# Altium integrated library TI Power Management Linear Regulator Single Channel LDO (0-350mA).IntLib: 1648 symbols (part 24 of 66)
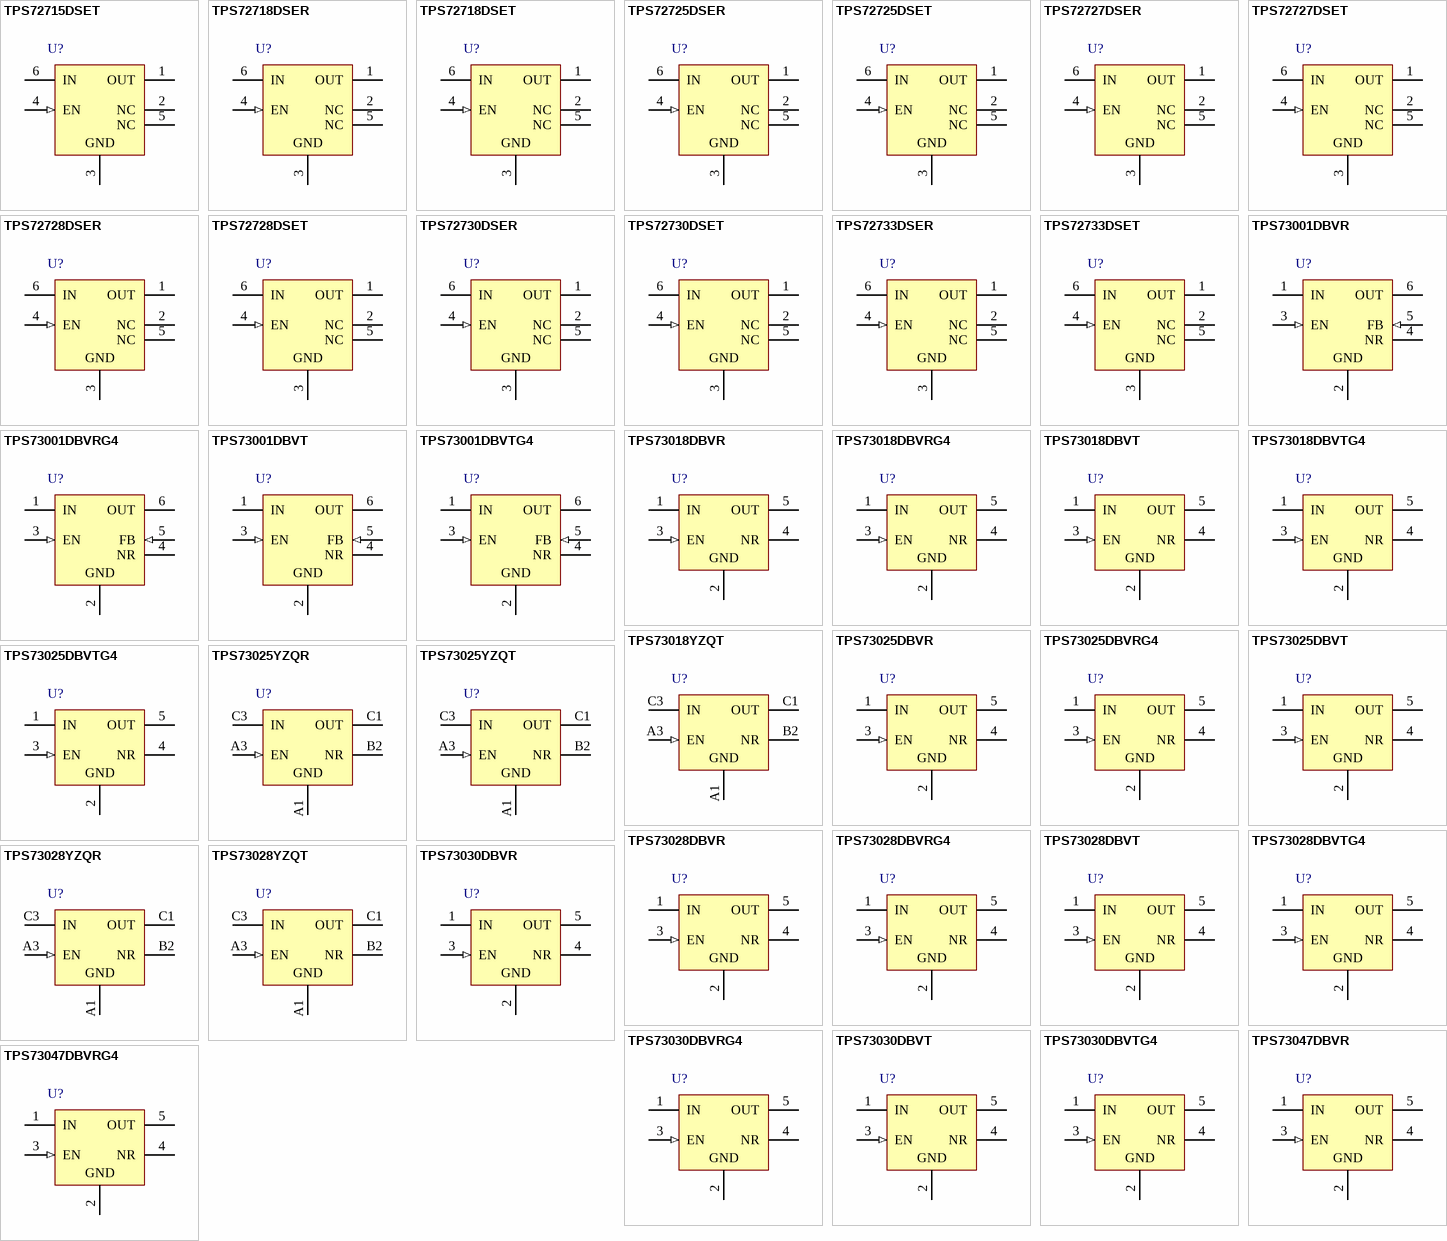
[diagram p65: symbols TPS72715DSET to TPS73047DBVRG4]

## TPS72718DSER
designator U?
Single Output Fast Transient Response LDO, 250 mA, Fixed 1.8 V Output, 2 to 5.5 V Input, with Ultra-Low IQ, 6-pin WSON (DSE), -40 to 125 degC, Green (RoHS & no Sb/Br); Manufacturer: Texas Instruments; PartNumber: TPS72718DSER; Accuracy(%): 2; Fixed Output Options(V): 1.8; Iout(Max)(A): 0.25; Iq(Typ)(mA): 0.008; Rating: Catalog; SubFamily: Single Channel LDO; Vdo(Typ)(mV): 130; Vin(Max)(V): 5.5; DatasheetVersion: SBVS128C; PackageVersion: 4207810/A; PackageReference: DSE6; PackageDescription: 6-Pin Plastic Small Outline, Body 1.5 x 1.5 mm, Pitch 0.5 mm; Supplier 1: Digi-Key; Supplier Part Number 1: TPS72718DSER-ND; Supplier 2: Newark; Supplier Part Number 2: 50R8161; Supplier 3: Mouser; Supplier Part Number 3: 595-TPS72718DSER; Eco-Plan: Green (RoHS & no Sb/Br); Vin(Min)(V): 2; Vout Adj(Max)(V): 1.8; Vout Adj(Min)(V): 1.8; Mounting Technology: Surface Mount; ComponentLink1Description: Manufacturer URL; ComponentLink1URL: http://www.ti.com/; ComponentLink2Description: Datasheet; ComponentLink2URL: http://www.ti.com/general/docs/lit/getliterature.tsp?genericPartNumber=TPS72718&fileType=pdf; ComponentLink3Description: Package Specification; ComponentLink3URL: http://www.ti.com/litv/pdf/mpds287
footprint TI-DSE6_V (SON, 6-Leads, Body 1.5x1.5mm, Pitch 0.5mm)
pins: 1 OUT (power) "Regulated output voltage pin. A small 1uF ceramic capacitor is needed from this pin to ground to assure stability.", 2 NC "No connection. This pin can be tied to to ground to improve thermal dissipation.", 3 GND (power) "Ground pin", 4 EN (in) "Enable pin. Driving EN over 0.9V turns on the regulator. Driving EN below 0.4V puts the regulator into shutdown mode, thus reducing the operating current to 120nA, nominal.", 5 NC "No connection. This pin can be tied to to ground to improve thermal dissipation.", 6 IN (power) "Input pin. A small capacitor is needed from this pin to ground to assure stability."

## TPS72718DSET
designator U?
Single Output Fast Transient Response LDO, 250 mA, Fixed 1.8 V Output, 2 to 5.5 V Input, with Ultra-Low IQ, 6-pin WSON (DSE), -40 to 125 degC, Green (RoHS & no Sb/Br); Manufacturer: Texas Instruments; PartNumber: TPS72718DSET; Accuracy(%): 2; Fixed Output Options(V): 1.8; Iout(Max)(A): 0.25; Iq(Typ)(mA): 0.008; Rating: Catalog; SubFamily: Single Channel LDO; Vdo(Typ)(mV): 130; Vin(Max)(V): 5.5; DatasheetVersion: SBVS128C; PackageVersion: 4207810/A; PackageReference: DSE6; PackageDescription: 6-Pin Plastic Small Outline, Body 1.5 x 1.5 mm, Pitch 0.5 mm; Supplier 1: Digi-Key; Supplier Part Number 1: 296-25192-2-ND; Supplier 2: Digi-Key; Supplier Part Number 2: 296-25192-1-ND; Supplier 3: Digi-Key; Supplier Part Number 3: 296-25192-6-ND; Supplier 4: Newark; Supplier Part Number 4: 34R6357; Supplier 5: Mouser; Supplier Part Number 5: 595-TPS72718DSET; Eco-Plan: Green (RoHS & no Sb/Br); Vin(Min)(V): 2; Vout Adj(Max)(V): 1.8; Vout Adj(Min)(V): 1.8; Mounting Technology: Surface Mount; ComponentLink1Description: Manufacturer URL; ComponentLink1URL: http://www.ti.com/; ComponentLink2Description: Datasheet; ComponentLink2URL: http://www.ti.com/general/docs/lit/getliterature.tsp?genericPartNumber=TPS72718&fileType=pdf; ComponentLink3Description: Package Specification; ComponentLink3URL: http://www.ti.com/litv/pdf/mpds287
footprint TI-DSE6_V (SON, 6-Leads, Body 1.5x1.5mm, Pitch 0.5mm)
pins: 1 OUT (power) "Regulated output voltage pin. A small 1uF ceramic capacitor is needed from this pin to ground to assure stability.", 2 NC "No connection. This pin can be tied to to ground to improve thermal dissipation.", 3 GND (power) "Ground pin", 4 EN (in) "Enable pin. Driving EN over 0.9V turns on the regulator. Driving EN below 0.4V puts the regulator into shutdown mode, thus reducing the operating current to 120nA, nominal.", 5 NC "No connection. This pin can be tied to to ground to improve thermal dissipation.", 6 IN (power) "Input pin. A small capacitor is needed from this pin to ground to assure stability."

## TPS72725DSER
designator U?
Single Output Fast Transient Response LDO, 250 mA, Fixed 2.5 V Output, 2 to 5.5 V Input, with Ultra-Low IQ, 6-pin WSON (DSE), -40 to 125 degC, Green (RoHS & no Sb/Br); Manufacturer: Texas Instruments; PartNumber: TPS72725DSER; Accuracy(%): 2; Fixed Output Options(V): 2.5; Iout(Max)(A): 0.25; Iq(Typ)(mA): 0.008; Rating: Catalog; SubFamily: Single Channel LDO; Vdo(Typ)(mV): 130; Vin(Max)(V): 5.5; DatasheetVersion: SBVS128C; PackageVersion: 4207810/A; PackageReference: DSE6; PackageDescription: 6-Pin Plastic Small Outline, Body 1.5 x 1.5 mm, Pitch 0.5 mm; Supplier 1: Digi-Key; Supplier Part Number 1: TPS72725DSER-ND; Supplier 2: Newark; Supplier Part Number 2: 01T0883; Supplier 3: Mouser; Supplier Part Number 3: 595-TPS72725DSER; Eco-Plan: Green (RoHS & no Sb/Br); Vin(Min)(V): 2; Vout Adj(Max)(V): 2.5; Vout Adj(Min)(V): 2.5; Mounting Technology: Surface Mount; ComponentLink1Description: Manufacturer URL; ComponentLink1URL: http://www.ti.com/; ComponentLink2Description: Datasheet; ComponentLink2URL: http://www.ti.com/general/docs/lit/getliterature.tsp?genericPartNumber=TPS72725&fileType=pdf; ComponentLink3Description: Package Specification; ComponentLink3URL: http://www.ti.com/litv/pdf/mpds287
footprint TI-DSE6_V (SON, 6-Leads, Body 1.5x1.5mm, Pitch 0.5mm)
pins: 1 OUT (power) "Regulated output voltage pin. A small 1uF ceramic capacitor is needed from this pin to ground to assure stability.", 2 NC "No connection. This pin can be tied to to ground to improve thermal dissipation.", 3 GND (power) "Ground pin", 4 EN (in) "Enable pin. Driving EN over 0.9V turns on the regulator. Driving EN below 0.4V puts the regulator into shutdown mode, thus reducing the operating current to 120nA, nominal.", 5 NC "No connection. This pin can be tied to to ground to improve thermal dissipation.", 6 IN (power) "Input pin. A small capacitor is needed from this pin to ground to assure stability."

## TPS72725DSET
designator U?
Single Output Fast Transient Response LDO, 250 mA, Fixed 2.5 V Output, 2 to 5.5 V Input, with Ultra-Low IQ, 6-pin WSON (DSE), -40 to 125 degC, Green (RoHS & no Sb/Br); Manufacturer: Texas Instruments; PartNumber: TPS72725DSET; Accuracy(%): 2; Fixed Output Options(V): 2.5; Iout(Max)(A): 0.25; Iq(Typ)(mA): 0.008; Rating: Catalog; SubFamily: Single Channel LDO; Vdo(Typ)(mV): 130; Vin(Max)(V): 5.5; DatasheetVersion: SBVS128C; PackageVersion: 4207810/A; PackageReference: DSE6; PackageDescription: 6-Pin Plastic Small Outline, Body 1.5 x 1.5 mm, Pitch 0.5 mm; Supplier 1: Digi-Key; Supplier Part Number 1: 296-27801-2-ND; Supplier 2: Digi-Key; Supplier Part Number 2: 296-27801-1-ND; Supplier 3: Digi-Key; Supplier Part Number 3: 296-27801-6-ND; Supplier 4: Newark; Supplier Part Number 4: 01T0884; Supplier 5: Mouser; Supplier Part Number 5: 595-TPS72725DSET; Eco-Plan: Green (RoHS & no Sb/Br); Vin(Min)(V): 2; Vout Adj(Max)(V): 2.5; Vout Adj(Min)(V): 2.5; Mounting Technology: Surface Mount; ComponentLink1Description: Manufacturer URL; ComponentLink1URL: http://www.ti.com/; ComponentLink2Description: Datasheet; ComponentLink2URL: http://www.ti.com/general/docs/lit/getliterature.tsp?genericPartNumber=TPS72725&fileType=pdf; ComponentLink3Description: Package Specification; ComponentLink3URL: http://www.ti.com/litv/pdf/mpds287
footprint TI-DSE6_V (SON, 6-Leads, Body 1.5x1.5mm, Pitch 0.5mm)
pins: 1 OUT (power) "Regulated output voltage pin. A small 1uF ceramic capacitor is needed from this pin to ground to assure stability.", 2 NC "No connection. This pin can be tied to to ground to improve thermal dissipation.", 3 GND (power) "Ground pin", 4 EN (in) "Enable pin. Driving EN over 0.9V turns on the regulator. Driving EN below 0.4V puts the regulator into shutdown mode, thus reducing the operating current to 120nA, nominal.", 5 NC "No connection. This pin can be tied to to ground to improve thermal dissipation.", 6 IN (power) "Input pin. A small capacitor is needed from this pin to ground to assure stability."

## TPS72727DSER
designator U?
Single Output Fast Transient Response LDO, 250 mA, Fixed 2.7 V Output, 2.2 to 5.5 V Input, with Ultra-Low IQ, 6-pin WSON (DSE), -40 to 125 degC, Green (RoHS & no Sb/Br); Manufacturer: Texas Instruments; PartNumber: TPS72727DSER; Accuracy(%): 2; Fixed Output Options(V): 2.7; Iout(Max)(A): 0.25; Iq(Typ)(mA): 0.008; Rating: Catalog; SubFamily: Single Channel LDO; Vdo(Typ)(mV): 130; Vin(Max)(V): 5.5; DatasheetVersion: SBVS128C; PackageVersion: 4207810/A; PackageReference: DSE6; PackageDescription: 6-Pin Plastic Small Outline, Body 1.5 x 1.5 mm, Pitch 0.5 mm; Supplier 1: Digi-Key; Supplier Part Number 1: TPS72727DSER-ND; Supplier 2: Mouser; Supplier Part Number 2: 595-TPS72727DSER; Eco-Plan: Green (RoHS & no Sb/Br); Vin(Min)(V): 2; Vout Adj(Max)(V): 2.7; Vout Adj(Min)(V): 2.7; Mounting Technology: Surface Mount; ComponentLink1Description: Manufacturer URL; ComponentLink1URL: http://www.ti.com/; ComponentLink2Description: Datasheet; ComponentLink2URL: http://www.ti.com/general/docs/lit/getliterature.tsp?genericPartNumber=TPS72727&fileType=pdf; ComponentLink3Description: Package Specification; ComponentLink3URL: http://www.ti.com/litv/pdf/mpds287
footprint TI-DSE6_V (SON, 6-Leads, Body 1.5x1.5mm, Pitch 0.5mm)
pins: 1 OUT (power) "Regulated output voltage pin. A small 1uF ceramic capacitor is needed from this pin to ground to assure stability.", 2 NC "No connection. This pin can be tied to to ground to improve thermal dissipation.", 3 GND (power) "Ground pin", 4 EN (in) "Enable pin. Driving EN over 0.9V turns on the regulator. Driving EN below 0.4V puts the regulator into shutdown mode, thus reducing the operating current to 120nA, nominal.", 5 NC "No connection. This pin can be tied to to ground to improve thermal dissipation.", 6 IN (power) "Input pin. A small capacitor is needed from this pin to ground to assure stability."

## TPS72727DSET
designator U?
Single Output Fast Transient Response LDO, 250 mA, Fixed 2.7 V Output, 2.2 to 5.5 V Input, with Ultra-Low IQ, 6-pin WSON (DSE), -40 to 125 degC, Green (RoHS & no Sb/Br); Manufacturer: Texas Instruments; PartNumber: TPS72727DSET; Accuracy(%): 2; Fixed Output Options(V): 2.7; Iout(Max)(A): 0.25; Iq(Typ)(mA): 0.008; Rating: Catalog; SubFamily: Single Channel LDO; Vdo(Typ)(mV): 130; Vin(Max)(V): 5.5; DatasheetVersion: SBVS128C; PackageVersion: 4207810/A; PackageReference: DSE6; PackageDescription: 6-Pin Plastic Small Outline, Body 1.5 x 1.5 mm, Pitch 0.5 mm; Supplier 1: Digi-Key; Supplier Part Number 1: 296-28450-2-ND; Supplier 2: Digi-Key; Supplier Part Number 2: 296-28450-1-ND; Supplier 3: Digi-Key; Supplier Part Number 3: 296-28450-6-ND; Supplier 4: Mouser; Supplier Part Number 4: 595-TPS72727DSET; Eco-Plan: Green (RoHS & no Sb/Br); Vin(Min)(V): 2; Vout Adj(Max)(V): 2.7; Vout Adj(Min)(V): 2.7; Mounting Technology: Surface Mount; ComponentLink1Description: Manufacturer URL; ComponentLink1URL: http://www.ti.com/; ComponentLink2Description: Datasheet; ComponentLink2URL: http://www.ti.com/general/docs/lit/getliterature.tsp?genericPartNumber=TPS72727&fileType=pdf; ComponentLink3Description: Package Specification; ComponentLink3URL: http://www.ti.com/litv/pdf/mpds287
footprint TI-DSE6_V (SON, 6-Leads, Body 1.5x1.5mm, Pitch 0.5mm)
pins: 1 OUT (power) "Regulated output voltage pin. A small 1uF ceramic capacitor is needed from this pin to ground to assure stability.", 2 NC "No connection. This pin can be tied to to ground to improve thermal dissipation.", 3 GND (power) "Ground pin", 4 EN (in) "Enable pin. Driving EN over 0.9V turns on the regulator. Driving EN below 0.4V puts the regulator into shutdown mode, thus reducing the operating current to 120nA, nominal.", 5 NC "No connection. This pin can be tied to to ground to improve thermal dissipation.", 6 IN (power) "Input pin. A small capacitor is needed from this pin to ground to assure stability."

## TPS72728DSER
designator U?
Single Output Fast Transient Response LDO, 250 mA, Fixed 2.8 V Output, 2 to 5.5 V Input, with Ultra-Low IQ, 6-pin WSON (DSE), -40 to 125 degC, Green (RoHS & no Sb/Br); Manufacturer: Texas Instruments; PartNumber: TPS72728DSER; Accuracy(%): 2; Fixed Output Options(V): 2.8; Iout(Max)(A): 0.25; Iq(Typ)(mA): 0.008; Rating: Catalog; SubFamily: Single Channel LDO; Vdo(Typ)(mV): 130; Vin(Max)(V): 5.5; DatasheetVersion: SBVS128C; PackageVersion: 4207810/A; PackageReference: DSE6; PackageDescription: 6-Pin Plastic Small Outline, Body 1.5 x 1.5 mm, Pitch 0.5 mm; Supplier 1: Digi-Key; Supplier Part Number 1: TPS72728DSER-ND; Supplier 2: Mouser; Supplier Part Number 2: 595-TPS72728DSER; Eco-Plan: Green (RoHS & no Sb/Br); Vin(Min)(V): 2; Vout Adj(Max)(V): 2.8; Vout Adj(Min)(V): 2.8; Mounting Technology: Surface Mount; ComponentLink1Description: Manufacturer URL; ComponentLink1URL: http://www.ti.com/; ComponentLink2Description: Datasheet; ComponentLink2URL: http://www.ti.com/general/docs/lit/getliterature.tsp?genericPartNumber=TPS72728&fileType=pdf; ComponentLink3Description: Package Specification; ComponentLink3URL: http://www.ti.com/litv/pdf/mpds287
footprint TI-DSE6_V (SON, 6-Leads, Body 1.5x1.5mm, Pitch 0.5mm)
pins: 1 OUT (power) "Regulated output voltage pin. A small 1uF ceramic capacitor is needed from this pin to ground to assure stability.", 2 NC "No connection. This pin can be tied to to ground to improve thermal dissipation.", 3 GND (power) "Ground pin", 4 EN (in) "Enable pin. Driving EN over 0.9V turns on the regulator. Driving EN below 0.4V puts the regulator into shutdown mode, thus reducing the operating current to 120nA, nominal.", 5 NC "No connection. This pin can be tied to to ground to improve thermal dissipation.", 6 IN (power) "Input pin. A small capacitor is needed from this pin to ground to assure stability."

## TPS72728DSET
designator U?
Single Output Fast Transient Response LDO, 250 mA, Fixed 2.8 V Output, 2 to 5.5 V Input, with Ultra-Low IQ, 6-pin WSON (DSE), -40 to 125 degC, Green (RoHS & no Sb/Br); Manufacturer: Texas Instruments; PartNumber: TPS72728DSET; Accuracy(%): 2; Fixed Output Options(V): 2.8; Iout(Max)(A): 0.25; Iq(Typ)(mA): 0.008; Rating: Catalog; SubFamily: Single Channel LDO; Vdo(Typ)(mV): 130; Vin(Max)(V): 5.5; DatasheetVersion: SBVS128C; PackageVersion: 4207810/A; PackageReference: DSE6; PackageDescription: 6-Pin Plastic Small Outline, Body 1.5 x 1.5 mm, Pitch 0.5 mm; Supplier 1: Digi-Key; Supplier Part Number 1: 296-25193-2-ND; Supplier 2: Digi-Key; Supplier Part Number 2: 296-25193-1-ND; Supplier 3: Digi-Key; Supplier Part Number 3: 296-25193-6-ND; Supplier 4: Newark; Supplier Part Number 4: 34R6358; Supplier 5: Mouser; Supplier Part Number 5: 595-TPS72728DSET; Eco-Plan: Green (RoHS & no Sb/Br); Vin(Min)(V): 2; Vout Adj(Max)(V): 2.8; Vout Adj(Min)(V): 2.8; Mounting Technology: Surface Mount; ComponentLink1Description: Manufacturer URL; ComponentLink1URL: http://www.ti.com/; ComponentLink2Description: Datasheet; ComponentLink2URL: http://www.ti.com/general/docs/lit/getliterature.tsp?genericPartNumber=TPS72728&fileType=pdf; ComponentLink3Description: Package Specification; ComponentLink3URL: http://www.ti.com/litv/pdf/mpds287
footprint TI-DSE6_V (SON, 6-Leads, Body 1.5x1.5mm, Pitch 0.5mm)
pins: 1 OUT (power) "Regulated output voltage pin. A small 1uF ceramic capacitor is needed from this pin to ground to assure stability.", 2 NC "No connection. This pin can be tied to to ground to improve thermal dissipation.", 3 GND (power) "Ground pin", 4 EN (in) "Enable pin. Driving EN over 0.9V turns on the regulator. Driving EN below 0.4V puts the regulator into shutdown mode, thus reducing the operating current to 120nA, nominal.", 5 NC "No connection. This pin can be tied to to ground to improve thermal dissipation.", 6 IN (power) "Input pin. A small capacitor is needed from this pin to ground to assure stability."

## TPS72730DSER
designator U?
Single Output Fast Transient Response LDO, 250 mA, Fixed 3 V Output, 2 to 5.5 V Input, with Ultra-Low IQ, 6-pin WSON (DSE), -40 to 125 degC, Green (RoHS & no Sb/Br); Manufacturer: Texas Instruments; PartNumber: TPS72730DSER; Accuracy(%): 2; Fixed Output Options(V): 3; Iout(Max)(A): 0.25; Iq(Typ)(mA): 0.008; Rating: Catalog; SubFamily: Single Channel LDO; Vdo(Typ)(mV): 130; Vin(Max)(V): 5.5; DatasheetVersion: SBVS128C; PackageVersion: 4207810/A; PackageReference: DSE6; PackageDescription: 6-Pin Plastic Small Outline, Body 1.5 x 1.5 mm, Pitch 0.5 mm; Supplier 1: Digi-Key; Supplier Part Number 1: TPS72730DSER-ND; Supplier 2: Newark; Supplier Part Number 2: 01T0885; Supplier 3: Mouser; Supplier Part Number 3: 595-TPS72730DSER; Eco-Plan: Green (RoHS & no Sb/Br); Vin(Min)(V): 2; Vout Adj(Max)(V): 3; Vout Adj(Min)(V): 3; Mounting Technology: Surface Mount; ComponentLink1Description: Manufacturer URL; ComponentLink1URL: http://www.ti.com/; ComponentLink2Description: Datasheet; ComponentLink2URL: http://www.ti.com/general/docs/lit/getliterature.tsp?genericPartNumber=TPS72730&fileType=pdf; ComponentLink3Description: Package Specification; ComponentLink3URL: http://www.ti.com/litv/pdf/mpds287
footprint TI-DSE6_V (SON, 6-Leads, Body 1.5x1.5mm, Pitch 0.5mm)
pins: 1 OUT (power) "Regulated output voltage pin. A small 1uF ceramic capacitor is needed from this pin to ground to assure stability.", 2 NC "No connection. This pin can be tied to to ground to improve thermal dissipation.", 3 GND (power) "Ground pin", 4 EN (in) "Enable pin. Driving EN over 0.9V turns on the regulator. Driving EN below 0.4V puts the regulator into shutdown mode, thus reducing the operating current to 120nA, nominal.", 5 NC "No connection. This pin can be tied to to ground to improve thermal dissipation.", 6 IN (power) "Input pin. A small capacitor is needed from this pin to ground to assure stability."

## TPS72730DSET
designator U?
Single Output Fast Transient Response LDO, 250 mA, Fixed 3 V Output, 2 to 5.5 V Input, with Ultra-Low IQ, 6-pin WSON (DSE), -40 to 125 degC, Green (RoHS & no Sb/Br); Manufacturer: Texas Instruments; PartNumber: TPS72730DSET; Accuracy(%): 2; Fixed Output Options(V): 3; Iout(Max)(A): 0.25; Iq(Typ)(mA): 0.008; Rating: Catalog; SubFamily: Single Channel LDO; Vdo(Typ)(mV): 130; Vin(Max)(V): 5.5; DatasheetVersion: SBVS128C; PackageVersion: 4207810/A; PackageReference: DSE6; PackageDescription: 6-Pin Plastic Small Outline, Body 1.5 x 1.5 mm, Pitch 0.5 mm; Supplier 1: Digi-Key; Supplier Part Number 1: 296-27802-2-ND; Supplier 2: Digi-Key; Supplier Part Number 2: 296-27802-1-ND; Supplier 3: Digi-Key; Supplier Part Number 3: 296-27802-6-ND; Supplier 4: Newark; Supplier Part Number 4: 01T0886; Supplier 5: Mouser; Supplier Part Number 5: 595-TPS72730DSET; Eco-Plan: Green (RoHS & no Sb/Br); Vin(Min)(V): 2; Vout Adj(Max)(V): 3; Vout Adj(Min)(V): 3; Mounting Technology: Surface Mount; ComponentLink1Description: Manufacturer URL; ComponentLink1URL: http://www.ti.com/; ComponentLink2Description: Datasheet; ComponentLink2URL: http://www.ti.com/general/docs/lit/getliterature.tsp?genericPartNumber=TPS72730&fileType=pdf; ComponentLink3Description: Package Specification; ComponentLink3URL: http://www.ti.com/litv/pdf/mpds287
footprint TI-DSE6_V (SON, 6-Leads, Body 1.5x1.5mm, Pitch 0.5mm)
pins: 1 OUT (power) "Regulated output voltage pin. A small 1uF ceramic capacitor is needed from this pin to ground to assure stability.", 2 NC "No connection. This pin can be tied to to ground to improve thermal dissipation.", 3 GND (power) "Ground pin", 4 EN (in) "Enable pin. Driving EN over 0.9V turns on the regulator. Driving EN below 0.4V puts the regulator into shutdown mode, thus reducing the operating current to 120nA, nominal.", 5 NC "No connection. This pin can be tied to to ground to improve thermal dissipation.", 6 IN (power) "Input pin. A small capacitor is needed from this pin to ground to assure stability."

## TPS72733DSER
designator U?
Single Output Fast Transient Response LDO, 250 mA, Fixed 3.3 V Output, 2 to 5.5 V Input, with Ultra-Low IQ, 6-pin WSON (DSE), -40 to 125 degC, Green (RoHS & no Sb/Br); Manufacturer: Texas Instruments; PartNumber: TPS72733DSER; Accuracy(%): 2; Fixed Output Options(V): 3.3; Iout(Max)(A): 0.25; Iq(Typ)(mA): 0.008; Rating: Catalog; SubFamily: Single Channel LDO; Vdo(Typ)(mV): 130; Vin(Max)(V): 5.5; DatasheetVersion: SBVS128C; PackageVersion: 4207810/A; PackageReference: DSE6; PackageDescription: 6-Pin Plastic Small Outline, Body 1.5 x 1.5 mm, Pitch 0.5 mm; Supplier 1: Digi-Key; Supplier Part Number 1: TPS72733DSER-ND; Supplier 2: Newark; Supplier Part Number 2: 01T0887; Supplier 3: Mouser; Supplier Part Number 3: 595-TPS72733DSER; Eco-Plan: Green (RoHS & no Sb/Br); Vin(Min)(V): 2; Vout Adj(Max)(V): 3.3; Vout Adj(Min)(V): 3.3; Mounting Technology: Surface Mount; ComponentLink1Description: Manufacturer URL; ComponentLink1URL: http://www.ti.com/; ComponentLink2Description: Datasheet; ComponentLink2URL: http://www.ti.com/general/docs/lit/getliterature.tsp?genericPartNumber=TPS72733&fileType=pdf; ComponentLink3Description: Package Specification; ComponentLink3URL: http://www.ti.com/litv/pdf/mpds287
footprint TI-DSE6_V (SON, 6-Leads, Body 1.5x1.5mm, Pitch 0.5mm)
pins: 1 OUT (power) "Regulated output voltage pin. A small 1uF ceramic capacitor is needed from this pin to ground to assure stability.", 2 NC "No connection. This pin can be tied to to ground to improve thermal dissipation.", 3 GND (power) "Ground pin", 4 EN (in) "Enable pin. Driving EN over 0.9V turns on the regulator. Driving EN below 0.4V puts the regulator into shutdown mode, thus reducing the operating current to 120nA, nominal.", 5 NC "No connection. This pin can be tied to to ground to improve thermal dissipation.", 6 IN (power) "Input pin. A small capacitor is needed from this pin to ground to assure stability."

## TPS72733DSET
designator U?
Single Output Fast Transient Response LDO, 250 mA, Fixed 3.3 V Output, 2 to 5.5 V Input, with Ultra-Low IQ, 6-pin WSON (DSE), -40 to 125 degC, Green (RoHS & no Sb/Br); Manufacturer: Texas Instruments; PartNumber: TPS72733DSET; Accuracy(%): 2; Fixed Output Options(V): 3.3; Iout(Max)(A): 0.25; Iq(Typ)(mA): 0.008; Rating: Catalog; SubFamily: Single Channel LDO; Vdo(Typ)(mV): 130; Vin(Max)(V): 5.5; DatasheetVersion: SBVS128C; PackageVersion: 4207810/A; PackageReference: DSE6; PackageDescription: 6-Pin Plastic Small Outline, Body 1.5 x 1.5 mm, Pitch 0.5 mm; Supplier 1: Digi-Key; Supplier Part Number 1: 296-27803-2-ND; Supplier 2: Digi-Key; Supplier Part Number 2: 296-27803-1-ND; Supplier 3: Digi-Key; Supplier Part Number 3: 296-27803-6-ND; Supplier 4: Newark; Supplier Part Number 4: 01T0888; Supplier 5: Mouser; Supplier Part Number 5: 595-TPS72733DSET; Eco-Plan: Green (RoHS & no Sb/Br); Vin(Min)(V): 2; Vout Adj(Max)(V): 3.3; Vout Adj(Min)(V): 3.3; Mounting Technology: Surface Mount; ComponentLink1Description: Manufacturer URL; ComponentLink1URL: http://www.ti.com/; ComponentLink2Description: Datasheet; ComponentLink2URL: http://www.ti.com/general/docs/lit/getliterature.tsp?genericPartNumber=TPS72733&fileType=pdf; ComponentLink3Description: Package Specification; ComponentLink3URL: http://www.ti.com/litv/pdf/mpds287
footprint TI-DSE6_V (SON, 6-Leads, Body 1.5x1.5mm, Pitch 0.5mm)
pins: 1 OUT (power) "Regulated output voltage pin. A small 1uF ceramic capacitor is needed from this pin to ground to assure stability.", 2 NC "No connection. This pin can be tied to to ground to improve thermal dissipation.", 3 GND (power) "Ground pin", 4 EN (in) "Enable pin. Driving EN over 0.9V turns on the regulator. Driving EN below 0.4V puts the regulator into shutdown mode, thus reducing the operating current to 120nA, nominal.", 5 NC "No connection. This pin can be tied to to ground to improve thermal dissipation.", 6 IN (power) "Input pin. A small capacitor is needed from this pin to ground to assure stability."

## TPS73001DBVR
designator U?
Single Output High PSRR LDO, 200 mA, Adjustable 1.2 to 5.5 V Output, 2.7 to 5.5 V Input, 6-pin SOT-23 (DBV), -40 to 85 degC, Green (RoHS & no Sb/Br); Manufacturer: Texas Instruments; PartNumber: TPS73001DBVR; Accuracy(%): 2; Iout(Max)(A): 0.2; Iq(Typ)(mA): 0.17; Rating: Catalog; SubFamily: Single Channel LDO; Vdo(Typ)(mV): 120; Vin(Max)(V): 5.5; Vin(Min)(V): 2.7; Vout Adj(Min)(V): 1.2; DatasheetVersion: SBVS054I; PackageVersion: 4073253-5/K; PackageReference: DBV6; PackageDescription: 6-Pin Plastic Small Outline, Body 1.60 × 2.90 mm, Pitch 0.95 mm; Supplier 1: Digi-Key; Supplier Part Number 1: 296-27055-2-ND; Supplier 2: Digi-Key; Supplier Part Number 2: 296-27055-1-ND; Supplier 3: Digi-Key; Supplier Part Number 3: 296-27055-6-ND; Supplier 4: Farnell; Supplier Part Number 4: 1412710; Supplier 5: Newark; Supplier Part Number 5: 71J8224; Supplier 6: Mouser; Supplier Part Number 6: 595-TPS73001DBVR; Eco-Plan: Green (RoHS & no Sb/Br); Vout Adj(Max)(V): 5.5; Mounting Technology: Surface Mount; Code_JEDEC: MO-178; ComponentLink1Description: Manufacturer URL; ComponentLink1URL: http://www.ti.com/; ComponentLink2Description: Datasheet; ComponentLink2URL: http://www.ti.com/general/docs/lit/getliterature.tsp?genericPartNumber=TPS73001&fileType=pdf; ComponentLink3Description: Package Specification; ComponentLink3URL: http://www.ti.com/litv/pdf/mpds026h
footprint TI-DBV6_N (SOT-23, 6-Leads, Body 2.90x1.60mm, Pitch 0.95mm, IPC Medium Density)
footprint TI-DBV6_L (SOT-23, 6-Leads, Body 2.90x1.60mm, Pitch 0.95mm, IPC High Density)
footprint TI-DBV6_M (SOT-23, 6-Leads, Body 2.90x1.60mm, Pitch 0.95mm, IPC Low Density)
pins: 1 IN (power) "Input to the device.", 2 GND (power) "Regulator ground", 3 EN (in) "Driving the enable pin (EN) high turns on the regulator. Driving this pin low puts the regulator into shutdown mode. EN can be connected to IN if not used.", 4 NR "Connecting an external capacitor to this pin bypasses noise generated by the internal bandgap. This improves power-supply rejection and reduces output noise.", 5 FB (in) "This terminal is the feedback input voltage for the adjustable device", 6 OUT (power) "Output of the regulator."

## TPS73001DBVRG4
designator U?
Single Output High PSRR LDO, 200 mA, Adjustable 1.2 to 5.5 V Output, 2.7 to 5.5 V Input, 6-pin SOT-23 (DBV), -40 to 85 degC, Green (RoHS & no Sb/Br); Manufacturer: Texas Instruments; PartNumber: TPS73001DBVRG4; Accuracy(%): 2; Iout(Max)(A): 0.2; Iq(Typ)(mA): 0.17; Rating: Catalog; SubFamily: Single Channel LDO; Vdo(Typ)(mV): 120; Vin(Max)(V): 5.5; Vin(Min)(V): 2.7; Vout Adj(Min)(V): 1.2; DatasheetVersion: SBVS054I; PackageVersion: 4073253-5/K; PackageReference: DBV6; PackageDescription: 6-Pin Plastic Small Outline, Body 1.60 × 2.90 mm, Pitch 0.95 mm; Supplier 1: Digi-Key; Supplier Part Number 1: TPS73001DBVRG4-ND; Supplier 2: Newark; Supplier Part Number 2: 24K6098; Supplier 3: Mouser; Supplier Part Number 3: 595-TPS73001DBVRG4; Eco-Plan: Green (RoHS & no Sb/Br); Vout Adj(Max)(V): 5.5; Mounting Technology: Surface Mount; Code_JEDEC: MO-178; ComponentLink1Description: Manufacturer URL; ComponentLink1URL: http://www.ti.com/; ComponentLink2Description: Datasheet; ComponentLink2URL: http://www.ti.com/general/docs/lit/getliterature.tsp?genericPartNumber=TPS73001&fileType=pdf; ComponentLink3Description: Package Specification; ComponentLink3URL: http://www.ti.com/litv/pdf/mpds026h
footprint TI-DBV6_N (SOT-23, 6-Leads, Body 2.90x1.60mm, Pitch 0.95mm, IPC Medium Density)
footprint TI-DBV6_L (SOT-23, 6-Leads, Body 2.90x1.60mm, Pitch 0.95mm, IPC High Density)
footprint TI-DBV6_M (SOT-23, 6-Leads, Body 2.90x1.60mm, Pitch 0.95mm, IPC Low Density)
pins: 1 IN (power) "Input to the device.", 2 GND (power) "Regulator ground", 3 EN (in) "Driving the enable pin (EN) high turns on the regulator. Driving this pin low puts the regulator into shutdown mode. EN can be connected to IN if not used.", 4 NR "Connecting an external capacitor to this pin bypasses noise generated by the internal bandgap. This improves power-supply rejection and reduces output noise.", 5 FB (in) "This terminal is the feedback input voltage for the adjustable device", 6 OUT (power) "Output of the regulator."

## TPS73001DBVT
designator U?
Single Output High PSRR LDO, 200 mA, Adjustable 1.2 to 5.5 V Output, 2.7 to 5.5 V Input, 6-pin SOT-23 (DBV), -40 to 85 degC, Green (RoHS & no Sb/Br); Manufacturer: Texas Instruments; PartNumber: TPS73001DBVT; Accuracy(%): 2; Iout(Max)(A): 0.2; Iq(Typ)(mA): 0.17; Rating: Catalog; SubFamily: Single Channel LDO; Vdo(Typ)(mV): 120; Vin(Max)(V): 5.5; Vin(Min)(V): 2.7; Vout Adj(Min)(V): 1.2; DatasheetVersion: SBVS054I; PackageVersion: 4073253-5/K; PackageReference: DBV6; PackageDescription: 6-Pin Plastic Small Outline, Body 1.60 × 2.90 mm, Pitch 0.95 mm; Supplier 1: Digi-Key; Supplier Part Number 1: 296-17576-2-ND; Supplier 2: Digi-Key; Supplier Part Number 2: 296-17576-1-ND; Supplier 3: Digi-Key; Supplier Part Number 3: 296-17576-6-ND; Supplier 4: Farnell; Supplier Part Number 4: 1135389RL; Supplier 5: Farnell; Supplier Part Number 5: 1135389; Supplier 6: Newark; Supplier Part Number 6: 71J8225; Supplier 7: Mouser; Supplier Part Number 7: 595-TPS73001DBVT; Eco-Plan: Green (RoHS & no Sb/Br); Vout Adj(Max)(V): 5.5; Mounting Technology: Surface Mount; Code_JEDEC: MO-178; ComponentLink1Description: Manufacturer URL; ComponentLink1URL: http://www.ti.com/; ComponentLink2Description: Datasheet; ComponentLink2URL: http://www.ti.com/general/docs/lit/getliterature.tsp?genericPartNumber=TPS73001&fileType=pdf; ComponentLink3Description: Package Specification; ComponentLink3URL: http://www.ti.com/litv/pdf/mpds026h
footprint TI-DBV6_N (SOT-23, 6-Leads, Body 2.90x1.60mm, Pitch 0.95mm, IPC Medium Density)
footprint TI-DBV6_L (SOT-23, 6-Leads, Body 2.90x1.60mm, Pitch 0.95mm, IPC High Density)
footprint TI-DBV6_M (SOT-23, 6-Leads, Body 2.90x1.60mm, Pitch 0.95mm, IPC Low Density)
pins: 1 IN (power) "Input to the device.", 2 GND (power) "Regulator ground", 3 EN (in) "Driving the enable pin (EN) high turns on the regulator. Driving this pin low puts the regulator into shutdown mode. EN can be connected to IN if not used.", 4 NR "Connecting an external capacitor to this pin bypasses noise generated by the internal bandgap. This improves power-supply rejection and reduces output noise.", 5 FB (in) "This terminal is the feedback input voltage for the adjustable device", 6 OUT (power) "Output of the regulator."

## TPS73001DBVTG4
designator U?
Single Output High PSRR LDO, 200 mA, Adjustable 1.2 to 5.5 V Output, 2.7 to 5.5 V Input, 6-pin SOT-23 (DBV), -40 to 85 degC, Green (RoHS & no Sb/Br); Manufacturer: Texas Instruments; PartNumber: TPS73001DBVTG4; Accuracy(%): 2; Iout(Max)(A): 0.2; Iq(Typ)(mA): 0.17; Rating: Catalog; SubFamily: Single Channel LDO; Vdo(Typ)(mV): 120; Vin(Max)(V): 5.5; Vin(Min)(V): 2.7; Vout Adj(Min)(V): 1.2; DatasheetVersion: SBVS054I; PackageVersion: 4073253-5/K; PackageReference: DBV6; PackageDescription: 6-Pin Plastic Small Outline, Body 1.60 × 2.90 mm, Pitch 0.95 mm; Supplier 1: Digi-Key; Supplier Part Number 1: TPS73001DBVTG4-ND; Supplier 2: Newark; Supplier Part Number 2: 24K6099; Supplier 3: Mouser; Supplier Part Number 3: 595-TPS73001DBVTG4; Eco-Plan: Green (RoHS & no Sb/Br); Vout Adj(Max)(V): 5.5; Mounting Technology: Surface Mount; Code_JEDEC: MO-178; ComponentLink1Description: Manufacturer URL; ComponentLink1URL: http://www.ti.com/; ComponentLink2Description: Datasheet; ComponentLink2URL: http://www.ti.com/general/docs/lit/getliterature.tsp?genericPartNumber=TPS73001&fileType=pdf; ComponentLink3Description: Package Specification; ComponentLink3URL: http://www.ti.com/litv/pdf/mpds026h
footprint TI-DBV6_N (SOT-23, 6-Leads, Body 2.90x1.60mm, Pitch 0.95mm, IPC Medium Density)
footprint TI-DBV6_L (SOT-23, 6-Leads, Body 2.90x1.60mm, Pitch 0.95mm, IPC High Density)
footprint TI-DBV6_M (SOT-23, 6-Leads, Body 2.90x1.60mm, Pitch 0.95mm, IPC Low Density)
pins: 1 IN (power) "Input to the device.", 2 GND (power) "Regulator ground", 3 EN (in) "Driving the enable pin (EN) high turns on the regulator. Driving this pin low puts the regulator into shutdown mode. EN can be connected to IN if not used.", 4 NR "Connecting an external capacitor to this pin bypasses noise generated by the internal bandgap. This improves power-supply rejection and reduces output noise.", 5 FB (in) "This terminal is the feedback input voltage for the adjustable device", 6 OUT (power) "Output of the regulator."

## TPS73018DBVR
designator U?
Single Output High PSRR LDO, 200 mA, Fixed 1.8 V Output, 2.7 to 5.5 V Input, 5-pin SOT-23 (DBV), -40 to 85 degC, Green (RoHS & no Sb/Br); Manufacturer: Texas Instruments; PartNumber: TPS73018DBVR; Accuracy(%): 2; Fixed Output Options(V): 1.8; Iout(Max)(A): 0.2; Iq(Typ)(mA): 0.17; Rating: Catalog; SubFamily: Single Channel LDO; Vdo(Typ)(mV): 120; Vin(Max)(V): 5.5; Vin(Min)(V): 2.7; DatasheetVersion: SBVS054I; PackageVersion: 4073253-4/K; PackageReference: DBV5; PackageDescription: 5-Pin Plastic Small Outline, Body 1.60 × 2.90 mm, Pitch 0.95 mm; Supplier 1: Digi-Key; Supplier Part Number 1: TPS73018DBVR-ND; Supplier 2: Newark; Supplier Part Number 2: 71J8226; Supplier 3: Mouser; Supplier Part Number 3: 595-TPS73018DBVR; Eco-Plan: Green (RoHS & no Sb/Br); Vout Adj(Max)(V): 1.8; Vout Adj(Min)(V): 1.8; Mounting Technology: Surface Mount; Code_JEDEC: MO-178; ComponentLink1Description: Manufacturer URL; ComponentLink1URL: http://www.ti.com/; ComponentLink2Description: Datasheet; ComponentLink2URL: http://www.ti.com/general/docs/lit/getliterature.tsp?genericPartNumber=TPS73018&fileType=pdf; ComponentLink3Description: Package Specification; ComponentLink3URL: http://www.ti.com/litv/pdf/mpds018i
footprint TI-DBV5_N (SOT23, 5-Leads, Body 2.9x1.6mm, Pitch 0.95mm, IPC Medium Density)
footprint TI-DBV5_L (SOT23, 5-Leads, Body 2.9x1.6mm, Pitch 0.95mm, IPC High Density)
footprint TI-DBV5_M (SOT23, 5-Leads, Body 2.9x1.6mm, Pitch 0.95mm, IPC Low Density)
pins: 1 IN (power) "Input supply.", 2 GND (power) "Ground.", 3 EN (in) "Driving the enable pin (EN) high turns on the regulator .Driving this pin low puts the regulator into shutdown mode.EN can be connected to IN if not used.", 4 NR "Fixed voltage versions only; connecting an external capacitor to this pin bypasses noise generated by the internal bandgap. This capacitor allows output noise to be reduced to very low levels.", 5 OUT (power) "Output for the regulator. A small capacitor (total typical capacitance >= 2.0uF ceramic) is needed from this pin to ground to assure stability."

## TPS73018DBVRG4
designator U?
Single Output High PSRR LDO, 200 mA, Fixed 1.8 V Output, 2.7 to 5.5 V Input, 5-pin SOT-23 (DBV), -40 to 85 degC, Green (RoHS & no Sb/Br); Manufacturer: Texas Instruments; PartNumber: TPS73018DBVRG4; Accuracy(%): 2; Fixed Output Options(V): 1.8; Iout(Max)(A): 0.2; Iq(Typ)(mA): 0.17; Rating: Catalog; SubFamily: Single Channel LDO; Vdo(Typ)(mV): 120; Vin(Max)(V): 5.5; Vin(Min)(V): 2.7; DatasheetVersion: SBVS054I; PackageVersion: 4073253-4/K; PackageReference: DBV5; PackageDescription: 5-Pin Plastic Small Outline, Body 1.60 × 2.90 mm, Pitch 0.95 mm; Supplier 1: Digi-Key; Supplier Part Number 1: TPS73018DBVRG4-ND; Supplier 2: Mouser; Supplier Part Number 2: 595-TPS73018DBVRG4; Eco-Plan: Green (RoHS & no Sb/Br); Vout Adj(Max)(V): 1.8; Vout Adj(Min)(V): 1.8; Mounting Technology: Surface Mount; Code_JEDEC: MO-178; ComponentLink1Description: Manufacturer URL; ComponentLink1URL: http://www.ti.com/; ComponentLink2Description: Datasheet; ComponentLink2URL: http://www.ti.com/general/docs/lit/getliterature.tsp?genericPartNumber=TPS73018&fileType=pdf; ComponentLink3Description: Package Specification; ComponentLink3URL: http://www.ti.com/litv/pdf/mpds018i
footprint TI-DBV5_N (SOT23, 5-Leads, Body 2.9x1.6mm, Pitch 0.95mm, IPC Medium Density)
footprint TI-DBV5_L (SOT23, 5-Leads, Body 2.9x1.6mm, Pitch 0.95mm, IPC High Density)
footprint TI-DBV5_M (SOT23, 5-Leads, Body 2.9x1.6mm, Pitch 0.95mm, IPC Low Density)
pins: 1 IN (power) "Input supply.", 2 GND (power) "Ground.", 3 EN (in) "Driving the enable pin (EN) high turns on the regulator .Driving this pin low puts the regulator into shutdown mode.EN can be connected to IN if not used.", 4 NR "Fixed voltage versions only; connecting an external capacitor to this pin bypasses noise generated by the internal bandgap. This capacitor allows output noise to be reduced to very low levels.", 5 OUT (power) "Output for the regulator. A small capacitor (total typical capacitance >= 2.0uF ceramic) is needed from this pin to ground to assure stability."

## TPS73018DBVT
designator U?
Single Output High PSRR LDO, 200 mA, Fixed 1.8 V Output, 2.7 to 5.5 V Input, 5-pin SOT-23 (DBV), -40 to 85 degC, Green (RoHS & no Sb/Br); Manufacturer: Texas Instruments; PartNumber: TPS73018DBVT; Accuracy(%): 2; Fixed Output Options(V): 1.8; Iout(Max)(A): 0.2; Iq(Typ)(mA): 0.17; Rating: Catalog; SubFamily: Single Channel LDO; Vdo(Typ)(mV): 120; Vin(Max)(V): 5.5; Vin(Min)(V): 2.7; DatasheetVersion: SBVS054I; PackageVersion: 4073253-4/K; PackageReference: DBV5; PackageDescription: 5-Pin Plastic Small Outline, Body 1.60 × 2.90 mm, Pitch 0.95 mm; Supplier 1: Digi-Key; Supplier Part Number 1: 296-17577-2-ND; Supplier 2: Digi-Key; Supplier Part Number 2: 296-17577-1-ND; Supplier 3: Digi-Key; Supplier Part Number 3: 296-17577-6-ND; Supplier 4: Farnell; Supplier Part Number 4: 1135390; Supplier 5: Farnell; Supplier Part Number 5: 1135390RL; Supplier 6: Newark; Supplier Part Number 6: 71J8227; Supplier 7: Mouser; Supplier Part Number 7: 595-TPS73018DBVT; Eco-Plan: Green (RoHS & no Sb/Br); Vout Adj(Max)(V): 1.8; Vout Adj(Min)(V): 1.8; Mounting Technology: Surface Mount; Code_JEDEC: MO-178; ComponentLink1Description: Manufacturer URL; ComponentLink1URL: http://www.ti.com/; ComponentLink2Description: Datasheet; ComponentLink2URL: http://www.ti.com/general/docs/lit/getliterature.tsp?genericPartNumber=TPS73018&fileType=pdf; ComponentLink3Description: Package Specification; ComponentLink3URL: http://www.ti.com/litv/pdf/mpds018i
footprint TI-DBV5_N (SOT23, 5-Leads, Body 2.9x1.6mm, Pitch 0.95mm, IPC Medium Density)
footprint TI-DBV5_L (SOT23, 5-Leads, Body 2.9x1.6mm, Pitch 0.95mm, IPC High Density)
footprint TI-DBV5_M (SOT23, 5-Leads, Body 2.9x1.6mm, Pitch 0.95mm, IPC Low Density)
pins: 1 IN (power) "Input supply.", 2 GND (power) "Ground.", 3 EN (in) "Driving the enable pin (EN) high turns on the regulator .Driving this pin low puts the regulator into shutdown mode.EN can be connected to IN if not used.", 4 NR "Fixed voltage versions only; connecting an external capacitor to this pin bypasses noise generated by the internal bandgap. This capacitor allows output noise to be reduced to very low levels.", 5 OUT (power) "Output for the regulator. A small capacitor (total typical capacitance >= 2.0uF ceramic) is needed from this pin to ground to assure stability."

## TPS73018DBVTG4
designator U?
Single Output High PSRR LDO, 200 mA, Fixed 1.8 V Output, 2.7 to 5.5 V Input, 5-pin SOT-23 (DBV), -40 to 85 degC, Green (RoHS & no Sb/Br); Manufacturer: Texas Instruments; PartNumber: TPS73018DBVTG4; Accuracy(%): 2; Fixed Output Options(V): 1.8; Iout(Max)(A): 0.2; Iq(Typ)(mA): 0.17; Rating: Catalog; SubFamily: Single Channel LDO; Vdo(Typ)(mV): 120; Vin(Max)(V): 5.5; Vin(Min)(V): 2.7; DatasheetVersion: SBVS054I; PackageVersion: 4073253-4/K; PackageReference: DBV5; PackageDescription: 5-Pin Plastic Small Outline, Body 1.60 × 2.90 mm, Pitch 0.95 mm; Supplier 1: Digi-Key; Supplier Part Number 1: TPS73018DBVTG4-ND; Supplier 2: Mouser; Supplier Part Number 2: 595-TPS73018DBVTG4; Eco-Plan: Green (RoHS & no Sb/Br); Vout Adj(Max)(V): 1.8; Vout Adj(Min)(V): 1.8; Mounting Technology: Surface Mount; Code_JEDEC: MO-178; ComponentLink1Description: Manufacturer URL; ComponentLink1URL: http://www.ti.com/; ComponentLink2Description: Datasheet; ComponentLink2URL: http://www.ti.com/general/docs/lit/getliterature.tsp?genericPartNumber=TPS73018&fileType=pdf; ComponentLink3Description: Package Specification; ComponentLink3URL: http://www.ti.com/litv/pdf/mpds018i
footprint TI-DBV5_N (SOT23, 5-Leads, Body 2.9x1.6mm, Pitch 0.95mm, IPC Medium Density)
footprint TI-DBV5_L (SOT23, 5-Leads, Body 2.9x1.6mm, Pitch 0.95mm, IPC High Density)
footprint TI-DBV5_M (SOT23, 5-Leads, Body 2.9x1.6mm, Pitch 0.95mm, IPC Low Density)
pins: 1 IN (power) "Input supply.", 2 GND (power) "Ground.", 3 EN (in) "Driving the enable pin (EN) high turns on the regulator .Driving this pin low puts the regulator into shutdown mode.EN can be connected to IN if not used.", 4 NR "Fixed voltage versions only; connecting an external capacitor to this pin bypasses noise generated by the internal bandgap. This capacitor allows output noise to be reduced to very low levels.", 5 OUT (power) "Output for the regulator. A small capacitor (total typical capacitance >= 2.0uF ceramic) is needed from this pin to ground to assure stability."

## TPS73018YZQT
designator U?
Single Output High PSRR LDO, 200 mA, Fixed 1.8 V Output, 2.7 to 5.5 V Input, 5-pin DSBGA (YZQ), -40 to 85 degC, Green (RoHS & no Sb/Br); Manufacturer: Texas Instruments; PartNumber: TPS73018YZQT; Accuracy(%): 2; Fixed Output Options(V): 1.8; Iout(Max)(A): 0.2; Iq(Typ)(mA): 0.17; Rating: Catalog; SubFamily: Single Channel LDO; Vdo(Typ)(mV): 120; Vin(Max)(V): 5.5; Vin(Min)(V): 2.7; DatasheetVersion: SBVS054I; PackageVersion: 4205677/C; PackageReference: YZQ5; PackageDescription: 5-Pin Silicon Grid Array, Body 1.32 x 0.815 mm, Pitch 0.25 mm; Supplier 1: Digi-Key; Supplier Part Number 1: TPS73018YZQT-ND; Supplier 2: Mouser; Supplier Part Number 2: 595-TPS73018YZQT; Eco-Plan: Green (RoHS & no Sb/Br); Vout Adj(Max)(V): 1.8; Vout Adj(Min)(V): 1.8; Mounting Technology: Surface Mount; ComponentLink1Description: Manufacturer URL; ComponentLink1URL: http://www.ti.com/; ComponentLink2Description: Datasheet; ComponentLink2URL: http://www.ti.com/general/docs/lit/getliterature.tsp?genericPartNumber=TPS73018&fileType=pdf; ComponentLink3Description: Package Specification; ComponentLink3URL: http://www.ti.com/litv/pdf/mxbg047b
footprint TI-YZQ5-1320x815DE (BAG, 5-Balls, Body 1.32x0.815mm, Pitch 0.25mm)
pins: A1 GND (power) "Ground", A3 EN (in) "Driving the enable pin (EN) high turns on the regulator.Driving this pin low puts the regulator into shutdown mode.EN can be connected to IN if not used.", B2 NR "Connecting an external capacitor to this pin bypasses noise generated by the internal bandgap.This improves power-supply rejection and reduces output noise.", C1 OUT (power) "Output of the regulator.", C3 IN (power) "Input to the device."

## TPS73025DBVR
designator U?
Single Output High PSRR LDO, 200 mA, Fixed 2.5 V Output, 2.7 to 5.5 V Input, 5-pin SOT-23 (DBV), -40 to 85 degC, Green (RoHS & no Sb/Br); Manufacturer: Texas Instruments; PartNumber: TPS73025DBVR; Accuracy(%): 2; Fixed Output Options(V): 2.5; Iout(Max)(A): 0.2; Iq(Typ)(mA): 0.17; Rating: Catalog; SubFamily: Single Channel LDO; Vdo(Typ)(mV): 120; Vin(Max)(V): 5.5; Vin(Min)(V): 2.7; DatasheetVersion: SBVS054I; PackageVersion: 4073253-4/K; PackageReference: DBV5; PackageDescription: 5-Pin Plastic Small Outline, Body 1.60 × 2.90 mm, Pitch 0.95 mm; Supplier 1: Digi-Key; Supplier Part Number 1: 296-17578-2-ND; Supplier 2: Digi-Key; Supplier Part Number 2: 296-17578-1-ND; Supplier 3: Digi-Key; Supplier Part Number 3: 296-17578-6-ND; Supplier 4: Farnell; Supplier Part Number 4: 1535735; Supplier 5: Newark; Supplier Part Number 5: 71J8228; Supplier 6: Mouser; Supplier Part Number 6: 595-TPS73025DBVR; Eco-Plan: Green (RoHS & no Sb/Br); Vout Adj(Max)(V): 2.5; Vout Adj(Min)(V): 2.5; Mounting Technology: Surface Mount; Code_JEDEC: MO-178; ComponentLink1Description: Manufacturer URL; ComponentLink1URL: http://www.ti.com/; ComponentLink2Description: Datasheet; ComponentLink2URL: http://www.ti.com/general/docs/lit/getliterature.tsp?genericPartNumber=TPS73025&fileType=pdf; ComponentLink3Description: Package Specification; ComponentLink3URL: http://www.ti.com/litv/pdf/mpds018i
footprint TI-DBV5_N (SOT23, 5-Leads, Body 2.9x1.6mm, Pitch 0.95mm, IPC Medium Density)
footprint TI-DBV5_L (SOT23, 5-Leads, Body 2.9x1.6mm, Pitch 0.95mm, IPC High Density)
footprint TI-DBV5_M (SOT23, 5-Leads, Body 2.9x1.6mm, Pitch 0.95mm, IPC Low Density)
pins: 1 IN (power) "Input supply.", 2 GND (power) "Ground.", 3 EN (in) "Driving the enable pin (EN) high turns on the regulator .Driving this pin low puts the regulator into shutdown mode.EN can be connected to IN if not used.", 4 NR "Fixed voltage versions only; connecting an external capacitor to this pin bypasses noise generated by the internal bandgap. This capacitor allows output noise to be reduced to very low levels.", 5 OUT (power) "Output for the regulator. A small capacitor (total typical capacitance >= 2.0uF ceramic) is needed from this pin to ground to assure stability."

## TPS73025DBVRG4
designator U?
Single Output High PSRR LDO, 200 mA, Fixed 2.5 V Output, 2.7 to 5.5 V Input, 5-pin SOT-23 (DBV), -40 to 85 degC, Green (RoHS & no Sb/Br); Manufacturer: Texas Instruments; PartNumber: TPS73025DBVRG4; Accuracy(%): 2; Fixed Output Options(V): 2.5; Iout(Max)(A): 0.2; Iq(Typ)(mA): 0.17; Rating: Catalog; SubFamily: Single Channel LDO; Vdo(Typ)(mV): 120; Vin(Max)(V): 5.5; Vin(Min)(V): 2.7; DatasheetVersion: SBVS054I; PackageVersion: 4073253-4/K; PackageReference: DBV5; PackageDescription: 5-Pin Plastic Small Outline, Body 1.60 × 2.90 mm, Pitch 0.95 mm; Supplier 1: Digi-Key; Supplier Part Number 1: TPS73025DBVRG4-ND; Supplier 2: Mouser; Supplier Part Number 2: 595-TPS73025DBVRG4; Eco-Plan: Green (RoHS & no Sb/Br); Vout Adj(Max)(V): 2.5; Vout Adj(Min)(V): 2.5; Mounting Technology: Surface Mount; Code_JEDEC: MO-178; ComponentLink1Description: Manufacturer URL; ComponentLink1URL: http://www.ti.com/; ComponentLink2Description: Datasheet; ComponentLink2URL: http://www.ti.com/general/docs/lit/getliterature.tsp?genericPartNumber=TPS73025&fileType=pdf; ComponentLink3Description: Package Specification; ComponentLink3URL: http://www.ti.com/litv/pdf/mpds018i
footprint TI-DBV5_N (SOT23, 5-Leads, Body 2.9x1.6mm, Pitch 0.95mm, IPC Medium Density)
footprint TI-DBV5_L (SOT23, 5-Leads, Body 2.9x1.6mm, Pitch 0.95mm, IPC High Density)
footprint TI-DBV5_M (SOT23, 5-Leads, Body 2.9x1.6mm, Pitch 0.95mm, IPC Low Density)
pins: 1 IN (power) "Input supply.", 2 GND (power) "Ground.", 3 EN (in) "Driving the enable pin (EN) high turns on the regulator .Driving this pin low puts the regulator into shutdown mode.EN can be connected to IN if not used.", 4 NR "Fixed voltage versions only; connecting an external capacitor to this pin bypasses noise generated by the internal bandgap. This capacitor allows output noise to be reduced to very low levels.", 5 OUT (power) "Output for the regulator. A small capacitor (total typical capacitance >= 2.0uF ceramic) is needed from this pin to ground to assure stability."

## TPS73025DBVT
designator U?
Single Output High PSRR LDO, 200 mA, Fixed 2.5 V Output, 2.7 to 5.5 V Input, 5-pin SOT-23 (DBV), -40 to 85 degC, Green (RoHS & no Sb/Br); Manufacturer: Texas Instruments; PartNumber: TPS73025DBVT; Accuracy(%): 2; Fixed Output Options(V): 2.5; Iout(Max)(A): 0.2; Iq(Typ)(mA): 0.17; Rating: Catalog; SubFamily: Single Channel LDO; Vdo(Typ)(mV): 120; Vin(Max)(V): 5.5; Vin(Min)(V): 2.7; DatasheetVersion: SBVS054I; PackageVersion: 4073253-4/K; PackageReference: DBV5; PackageDescription: 5-Pin Plastic Small Outline, Body 1.60 × 2.90 mm, Pitch 0.95 mm; Supplier 1: Digi-Key; Supplier Part Number 1: 296-27056-2-ND; Supplier 2: Digi-Key; Supplier Part Number 2: 296-27056-1-ND; Supplier 3: Digi-Key; Supplier Part Number 3: 296-27056-6-ND; Supplier 4: Farnell; Supplier Part Number 4: 1135392RL; Supplier 5: Farnell; Supplier Part Number 5: 1135392; Supplier 6: Newark; Supplier Part Number 6: 93K0905; Supplier 7: Newark; Supplier Part Number 7: 71J8229; Supplier 8: Mouser; Supplier Part Number 8: 595-TPS73025DBVT; Eco-Plan: Green (RoHS & no Sb/Br); Vout Adj(Max)(V): 2.5; Vout Adj(Min)(V): 2.5; Mounting Technology: Surface Mount; Code_JEDEC: MO-178; ComponentLink1Description: Manufacturer URL; ComponentLink1URL: http://www.ti.com/; ComponentLink2Description: Datasheet; ComponentLink2URL: http://www.ti.com/general/docs/lit/getliterature.tsp?genericPartNumber=TPS73025&fileType=pdf; ComponentLink3Description: Package Specification; ComponentLink3URL: http://www.ti.com/litv/pdf/mpds018i
footprint TI-DBV5_N (SOT23, 5-Leads, Body 2.9x1.6mm, Pitch 0.95mm, IPC Medium Density)
footprint TI-DBV5_L (SOT23, 5-Leads, Body 2.9x1.6mm, Pitch 0.95mm, IPC High Density)
footprint TI-DBV5_M (SOT23, 5-Leads, Body 2.9x1.6mm, Pitch 0.95mm, IPC Low Density)
pins: 1 IN (power) "Input supply.", 2 GND (power) "Ground.", 3 EN (in) "Driving the enable pin (EN) high turns on the regulator .Driving this pin low puts the regulator into shutdown mode.EN can be connected to IN if not used.", 4 NR "Fixed voltage versions only; connecting an external capacitor to this pin bypasses noise generated by the internal bandgap. This capacitor allows output noise to be reduced to very low levels.", 5 OUT (power) "Output for the regulator. A small capacitor (total typical capacitance >= 2.0uF ceramic) is needed from this pin to ground to assure stability."